# EAGLE library part PCA9306 (library anykey)
I2C bidirectional level translator
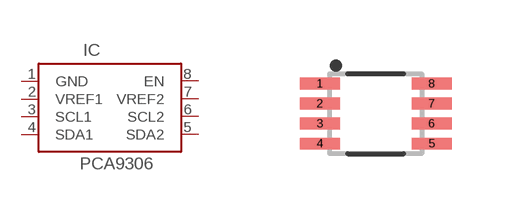
[diagram p28: symbol with the pads of US8; footprint US8]

Designator prefix IC

## PCA9306US8  [US8]
1  GND
2  VREF1
3  SCL1
4  SDA1
5  SDA2
6  SCL2
7  VREF2
8  EN

## Footprint US8 (pad centres in mm)
smd 1 x 0.3: 1 -1.4,0.75; 2 -1.4,0.25; 3 -1.4,-0.25; 4 -1.4,-0.75; 5 1.4,-0.75; 6 1.4,-0.25; 7 1.4,0.25; 8 1.4,0.75